# EAGLE library part 74LVC32A (library ds_ic_logic)
Quad 2-input OR gate
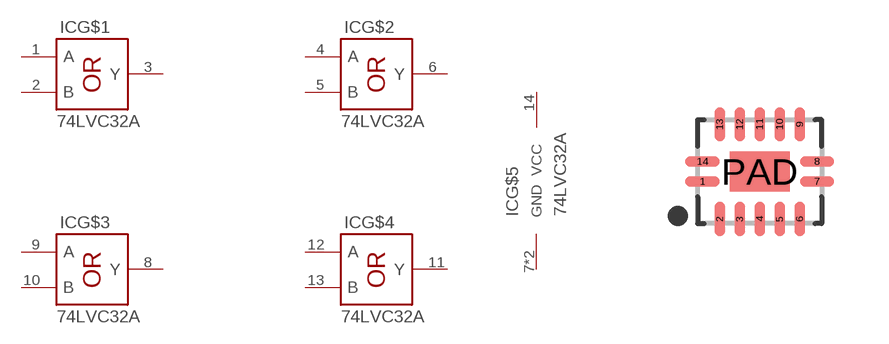
[diagram p3: symbol with the pads of QFN50P250X300X100-15T100X150N; footprint QFN50P250X300X100-15T100X150N]

Designator prefix IC; gates G$1=OR G$2=OR G$3=OR G$4=OR G$5=POWER

## 74LVC32A  [QFN50P250X300X100-15T100X150N]
1  G$1:A
2  G$1:B
3  G$1:Y
4  G$2:A
5  G$2:B
6  G$2:Y
7  G$5:GND  pwr
8  G$3:Y
9  G$3:A
10  G$3:B
11  G$4:Y
12  G$4:A
13  G$4:B
14  G$5:VCC  pwr
PAD  G$5:GND  pwr

## Footprint QFN50P250X300X100-15T100X150N (pad centres in mm)
14-QFN, 0.50 mm pitch, 2.50 X 3.00 X 1.00 mm body, 1.00 X 1.50 mm thermal pad 14-pin QFN package with 0.50 mm pitch with body size 2.50 X 3.00 X 1.00 mm and thermal pad size 1.00 X 1.50 mm
smd 0.86 x 0.264: 1 -1.435,-0.25; 7 1.435,-0.25; 8 1.435,0.25; 14 -1.435,0.25
smd 0.264 x 0.86: 2 -1,-1.185; 3 -0.5,-1.185; 4 0,-1.185; 5 0.5,-1.185; 6 1,-1.185; 9 1,1.185; 10 0.5,1.185; 11 0,1.185; 12 -0.5,1.185; 13 -1,1.185
smd 1.5 x 1: PAD 0,0